# Altium footprint library STM32H723VET6.PcbLib: 3 footprints
Each footprint in its own frame and in the unit in brackets; x right, y up, seen from the top. Pads: shape width x height; smd on the part's side, far side on the other; paste and mask are expansions set on the pad; w line width, h text height; cw(c..) or ccw(c..) is an arc to the next point about the centre after c.
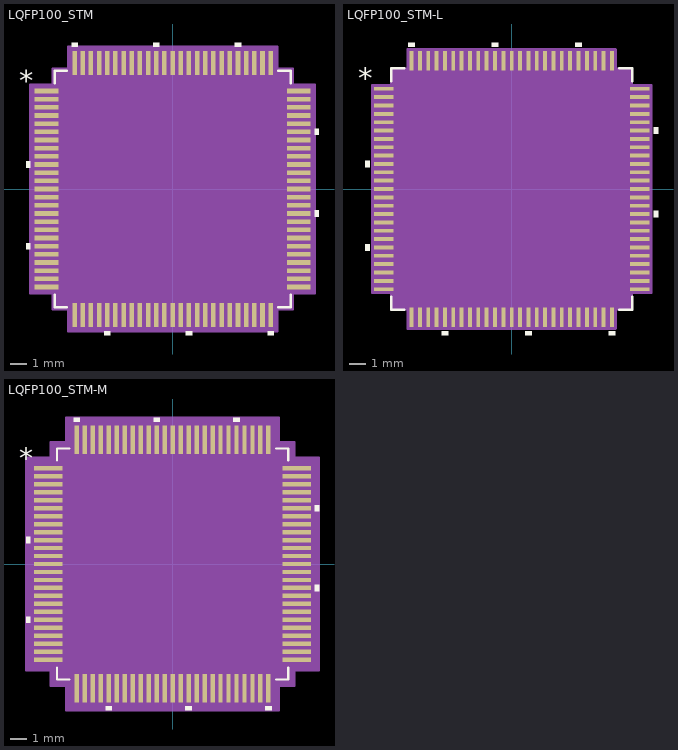
[diagram p0: the footprints below, top view; thin cyan lines are the x and y axes]

## LQFP100_STM [mil]
pads (100):
  rect 57.56x11 smd paste+0 mask+0: 1(-304,236.22) 2(-304,216.54) 3(-304,196.85) 4(-304,177.17) 5(-304,157.48) 6(-304,137.8) 7(-304,118.11) 8(-304,98.43) 9(-304,78.74) 10(-304,59.06) 11(-304,39.37) 12(-304,19.69) 13(-304,0) 14(-304,-19.68) 15(-304,-39.37) 16(-304,-59.06) 17(-304,-78.74) 18(-304,-98.43) 19(-304,-118.11) 20(-304,-137.8) 21(-304,-157.48) 22(-304,-177.17) 23(-304,-196.85) 24(-304,-216.54) 25(-304,-236.22) 51(304,-236.22) 52(304,-216.54) 53(304,-196.85) 54(304,-177.17) 55(304,-157.48) 56(304,-137.8) 57(304,-118.11) 58(304,-98.43) 59(304,-78.74) 60(304,-59.06) 61(304,-39.37) 62(304,-19.68) 63(304,0) 64(304,19.68) 65(304,39.37) 66(304,59.06) 67(304,78.74) 68(304,98.43) 69(304,118.11) 70(304,137.8) 71(304,157.48) 72(304,177.17) 73(304,196.85) 74(304,216.54) 75(304,236.22)
  rect 11x57.56 smd paste+0 mask+0: 26(-236.22,-304) 27(-216.54,-304) 28(-196.85,-304) 29(-177.17,-304) 30(-157.48,-304) 31(-137.8,-304) 32(-118.11,-304) 33(-98.43,-304) 34(-78.74,-304) 35(-59.06,-304) 36(-39.37,-304) 37(-19.68,-304) 38(0,-304) 39(19.68,-304) 40(39.37,-304) 41(59.06,-304) 42(78.74,-304) 43(98.43,-304) 44(118.11,-304) 45(137.8,-304) 46(157.48,-304) 47(177.17,-304) 48(196.85,-304) 49(216.54,-304) 50(236.22,-304) 76(236.22,304) 77(216.54,304) 78(196.85,304) 79(177.17,304) 80(157.48,304) 81(137.8,304) 82(118.11,304) 83(98.43,304) 84(78.74,304) 85(59.06,304) 86(39.37,304) 87(19.68,304) 88(0,304) 89(-19.68,304) 90(-39.37,304) 91(-59.06,304) 92(-78.74,304) 93(-98.43,304) 94(-118.11,304) 95(-137.8,304) 96(-157.48,304) 97(-177.17,304) 98(-196.85,304) 99(-216.54,304) 100(-236.22,304)
Top Overlay:
  region: -342.78,66.56 -352.78,66.56 -352.78,51.56 -342.78,51.56
  region: -342.78,-130.3 -352.78,-130.3 -352.78,-145.3 -342.78,-145.3
  region: -149.98,-342.78 -164.98,-342.78 -164.98,-352.78 -149.98,-352.78
  region: 46.87,-342.78 31.87,-342.78 31.87,-352.78 46.87,-352.78
  region: 243.72,-342.78 228.72,-342.78 228.72,-352.78 243.72,-352.78
  region: 342.78,-51.56 352.78,-51.56 352.78,-66.56 342.78,-66.56
  region: 342.78,145.3 352.78,145.3 352.78,130.3 342.78,130.3
  region: 164.98,342.78 149.98,342.78 149.98,352.78 164.98,352.78
  region: -31.87,342.78 -46.87,342.78 -46.87,352.78 -31.87,352.78
  region: -228.72,342.78 -243.72,342.78 -243.72,352.78 -228.72,352.78
  lines w6: -284.5,-254.82 -284.5,-284.5 -254.82,-284.5 ; -284.5,254.82 -284.5,284.5 -254.82,284.5 ; 254.82,-284.5 284.5,-284.5 284.5,-254.82 ; 254.82,284.5 284.5,284.5 284.5,254.82
  text "*" at -370.28,236.06 h50
  text ".Designator" at -137.5,-25 h50
Mechanical 13:
  drawing of 405 lines, arcs and shapes, not listed
  text ".Designator" at -137.5,-25 h50
  text "*" at -277,221.06 h50
Mechanical 15:
  region: -251.72,-289.5 -289.5,-289.5 -289.5,-251.72 -342.78,-251.72 -342.78,251.72 -289.5,251.72 -289.5,289.5 -251.72,289.5 -251.72,342.78 251.72,342.78 251.72,289.5 289.5,289.5 289.5,251.72 342.78,251.72 342.78,-251.72 289.5,-251.72 289.5,-289.5 251.72,-289.5 251.72,-342.78 -251.72,-342.78
  lines w6: -342.78,-251.72 -289.5,-251.72 -289.5,-289.5 -251.72,-289.5 -251.72,-342.78 251.72,-342.78 251.72,-289.5 289.5,-289.5 289.5,-251.72 342.78,-251.72 342.78,251.72 289.5,251.72 289.5,289.5 251.72,289.5 251.72,342.78 -251.72,342.78 -251.72,289.5 -289.5,289.5 -289.5,251.72 -342.78,251.72 -342.78,-251.72
3D body "LQFP100_STM.step": height 63.11, standoff 0, extent -319.02,-319.02 319.02,319.02

## LQFP100_STM-L [mm]
pads (100):
  rect 1.162x0.229 smd paste+0 mask+0: 1(-7.672,6) 2(-7.672,5.5) 3(-7.672,5) 4(-7.672,4.5) 5(-7.672,4) 6(-7.672,3.5) 7(-7.672,3) 8(-7.672,2.5) 9(-7.672,2) 10(-7.672,1.5) 11(-7.672,1) 12(-7.672,0.5) 13(-7.672,0) 14(-7.672,-0.5) 15(-7.672,-1) 16(-7.672,-1.5) 17(-7.672,-2) 18(-7.672,-2.5) 19(-7.672,-3) 20(-7.672,-3.5) 21(-7.672,-4) 22(-7.672,-4.5) 23(-7.672,-5) 24(-7.672,-5.5) 25(-7.672,-6) 51(7.672,-6) 52(7.672,-5.5) 53(7.672,-5) 54(7.672,-4.5) 55(7.672,-4) 56(7.672,-3.5) 57(7.672,-3) 58(7.672,-2.5) 59(7.672,-2) 60(7.672,-1.5) 61(7.672,-1) 62(7.672,-0.5) 63(7.672,0) 64(7.672,0.5) 65(7.672,1) 66(7.672,1.5) 67(7.672,2) 68(7.672,2.5) 69(7.672,3) 70(7.672,3.5) 71(7.672,4) 72(7.672,4.5) 73(7.672,5) 74(7.672,5.5) 75(7.672,6)
  rect 0.229x1.162 smd paste+0 mask+0: 26(-6,-7.672) 27(-5.5,-7.672) 28(-5,-7.672) 29(-4.5,-7.672) 30(-4,-7.672) 31(-3.5,-7.672) 32(-3,-7.672) 33(-2.5,-7.672) 34(-2,-7.672) 35(-1.5,-7.672) 36(-1,-7.672) 37(-0.5,-7.672) 38(0,-7.672) 39(0.5,-7.672) 40(1,-7.672) 41(1.5,-7.672) 42(2,-7.672) 43(2.5,-7.672) 44(3,-7.672) 45(3.5,-7.672) 46(4,-7.672) 47(4.5,-7.672) 48(5,-7.672) 49(5.5,-7.672) 50(6,-7.672) 76(6,7.672) 77(5.5,7.672) 78(5,7.672) 79(4.5,7.672) 80(4,7.672) 81(3.5,7.672) 82(3,7.672) 83(2.5,7.672) 84(2,7.672) 85(1.5,7.672) 86(1,7.672) 87(0.5,7.672) 88(0,7.672) 89(-0.5,7.672) 90(-1,7.672) 91(-1.5,7.672) 92(-2,7.672) 93(-2.5,7.672) 94(-3,7.672) 95(-3.5,7.672) 96(-4,7.672) 97(-4.5,7.672) 98(-5,7.672) 99(-5.5,7.672) 100(-6,7.672)
Top Overlay:
  region: -8.507,1.69 -8.761,1.69 -8.761,1.309 -8.507,1.309
  region: -8.507,-3.31 -8.761,-3.31 -8.761,-3.691 -8.507,-3.691
  region: -3.809,-8.507 -4.19,-8.507 -4.19,-8.761 -3.809,-8.761
  region: 1.191,-8.507 0.81,-8.507 0.81,-8.761 1.191,-8.761
  region: 6.191,-8.507 5.81,-8.507 5.81,-8.761 6.191,-8.761
  region: 8.507,-1.309 8.761,-1.309 8.761,-1.69 8.507,-1.69
  region: 8.507,3.691 8.761,3.691 8.761,3.31 8.507,3.31
  region: 4.19,8.507 3.809,8.507 3.809,8.761 4.19,8.761
  region: -0.81,8.507 -1.191,8.507 -1.191,8.761 -0.81,8.761
  region: -5.81,8.507 -6.191,8.507 -6.191,8.761 -5.81,8.761
  lines w0.152: -7.226,-6.447 -7.226,-7.226 -6.447,-7.226 ; -7.226,6.447 -7.226,7.226 -6.447,7.226 ; 6.447,-7.226 7.226,-7.226 7.226,-6.447 ; 6.447,7.226 7.226,7.226 7.226,6.447
  text "*" at -9.205,5.996 h1.27
  text ".Designator" at -3.492,-0.635 h1.27
Mechanical 13:
  drawing of 405 lines, arcs and shapes, not listed
  text ".Designator" at -3.492,-0.635 h1.27
  text "*" at -7.036,5.615 h1.27
Mechanical 15:
  region: -6.216,-7.201 -7.201,-7.201 -7.201,-6.216 -8.354,-6.216 -8.354,6.216 -7.201,6.216 -7.201,7.201 -6.216,7.201 -6.216,8.354 6.216,8.354 6.216,7.201 7.201,7.201 7.201,6.216 8.354,6.216 8.354,-6.216 7.201,-6.216 7.201,-7.201 6.216,-7.201 6.216,-8.354 -6.216,-8.354
  lines w0.152: -8.354,-6.216 -7.201,-6.216 -7.201,-7.201 -6.216,-7.201 -6.216,-8.354 6.216,-8.354 6.216,-7.201 7.201,-7.201 7.201,-6.216 8.354,-6.216 8.354,6.216 7.201,6.216 7.201,7.201 6.216,7.201 6.216,8.354 -6.216,8.354 -6.216,7.201 -7.201,7.201 -7.201,6.216 -8.354,6.216 -8.354,-6.216
3D body "LQFP100_STM.step": height 1.6, standoff 0, extent -8.103,-8.103 8.103,8.103

## LQFP100_STM-M [mil]
pads (100):
  rect 69.37x11 smd paste+0 mask+0: 1(-305.97,236.22) 2(-305.97,216.54) 3(-305.97,196.85) 4(-305.97,177.17) 5(-305.97,157.48) 6(-305.97,137.8) 7(-305.97,118.11) 8(-305.97,98.43) 9(-305.97,78.74) 10(-305.97,59.06) 11(-305.97,39.37) 12(-305.97,19.69) 13(-305.97,0) 14(-305.97,-19.68) 15(-305.97,-39.37) 16(-305.97,-59.06) 17(-305.97,-78.74) 18(-305.97,-98.43) 19(-305.97,-118.11) 20(-305.97,-137.8) 21(-305.97,-157.48) 22(-305.97,-177.17) 23(-305.97,-196.85) 24(-305.97,-216.54) 25(-305.97,-236.22) 51(305.97,-236.22) 52(305.97,-216.54) 53(305.97,-196.85) 54(305.97,-177.17) 55(305.97,-157.48) 56(305.97,-137.8) 57(305.97,-118.11) 58(305.97,-98.43) 59(305.97,-78.74) 60(305.97,-59.06) 61(305.97,-39.37) 62(305.97,-19.68) 63(305.97,0) 64(305.97,19.68) 65(305.97,39.37) 66(305.97,59.06) 67(305.97,78.74) 68(305.97,98.43) 69(305.97,118.11) 70(305.97,137.8) 71(305.97,157.48) 72(305.97,177.17) 73(305.97,196.85) 74(305.97,216.54) 75(305.97,236.22)
  rect 11x69.37 smd paste+0 mask+0: 26(-236.22,-305.97) 27(-216.54,-305.97) 28(-196.85,-305.97) 29(-177.17,-305.97) 30(-157.48,-305.97) 31(-137.8,-305.97) 32(-118.11,-305.97) 33(-98.43,-305.97) 34(-78.74,-305.97) 35(-59.06,-305.97) 36(-39.37,-305.97) 37(-19.68,-305.97) 38(0,-305.97) 39(19.68,-305.97) 40(39.37,-305.97) 41(59.06,-305.97) 42(78.74,-305.97) 43(98.43,-305.97) 44(118.11,-305.97) 45(137.8,-305.97) 46(157.48,-305.97) 47(177.17,-305.97) 48(196.85,-305.97) 49(216.54,-305.97) 50(236.22,-305.97) 76(236.22,305.97) 77(216.54,305.97) 78(196.85,305.97) 79(177.17,305.97) 80(157.48,305.97) 81(137.8,305.97) 82(118.11,305.97) 83(98.43,305.97) 84(78.74,305.97) 85(59.06,305.97) 86(39.37,305.97) 87(19.68,305.97) 88(0,305.97) 89(-19.68,305.97) 90(-39.37,305.97) 91(-59.06,305.97) 92(-78.74,305.97) 93(-98.43,305.97) 94(-118.11,305.97) 95(-137.8,305.97) 96(-157.48,305.97) 97(-177.17,305.97) 98(-196.85,305.97) 99(-216.54,305.97) 100(-236.22,305.97)
Top Overlay:
  region: -350.65,66.56 -360.65,66.56 -360.65,51.56 -350.65,51.56
  region: -350.65,-130.3 -360.65,-130.3 -360.65,-145.3 -350.65,-145.3
  region: -149.98,-350.65 -164.98,-350.65 -164.98,-360.65 -149.98,-360.65
  region: 46.87,-350.65 31.87,-350.65 31.87,-360.65 46.87,-360.65
  region: 243.72,-350.65 228.72,-350.65 228.72,-360.65 243.72,-360.65
  region: 350.65,-51.56 360.65,-51.56 360.65,-66.56 350.65,-66.56
  region: 350.65,145.3 360.65,145.3 360.65,130.3 350.65,130.3
  region: 164.98,350.65 149.98,350.65 149.98,360.65 164.98,360.65
  region: -31.87,350.65 -46.87,350.65 -46.87,360.65 -31.87,360.65
  region: -228.72,350.65 -243.72,350.65 -243.72,360.65 -228.72,360.65
  lines w6: -284.5,-254.82 -284.5,-284.5 -254.82,-284.5 ; -284.5,254.82 -284.5,284.5 -254.82,284.5 ; 254.82,-284.5 284.5,-284.5 284.5,-254.82 ; 254.82,284.5 284.5,284.5 284.5,254.82
  text "*" at -378.15,236.06 h50
  text ".Designator" at -137.5,-25 h50
Mechanical 13:
  drawing of 405 lines, arcs and shapes, not listed
  text ".Designator" at -137.5,-25 h50
  text "*" at -277,221.06 h50
Mechanical 15:
  region: -261.72,-299.5 -299.5,-299.5 -299.5,-261.72 -360.65,-261.72 -360.65,261.72 -299.5,261.72 -299.5,299.5 -261.72,299.5 -261.72,360.65 261.72,360.65 261.72,299.5 299.5,299.5 299.5,261.72 360.65,261.72 360.65,-261.72 299.5,-261.72 299.5,-299.5 261.72,-299.5 261.72,-360.65 -261.72,-360.65
  lines w6: -360.65,-261.72 -299.5,-261.72 -299.5,-299.5 -261.72,-299.5 -261.72,-360.65 261.72,-360.65 261.72,-299.5 299.5,-299.5 299.5,-261.72 360.65,-261.72 360.65,261.72 299.5,261.72 299.5,299.5 261.72,299.5 261.72,360.65 -261.72,360.65 -261.72,299.5 -299.5,299.5 -299.5,261.72 -360.65,261.72 -360.65,-261.72
3D body "LQFP100_STM.step": height 63.11, standoff 0, extent -319.02,-319.02 319.02,319.02